# EAGLE library part CA3140AM (library Intersil_By_element14_Batch_1)
BiMOS Operational Amplifier with MOSFET Input/Bipolar Output
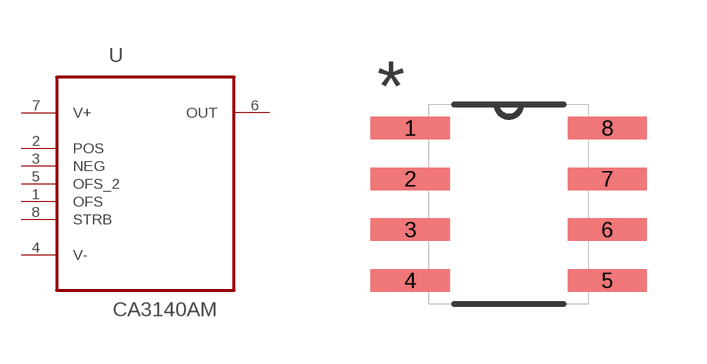
[diagram p7: symbol with the pads of SOIC127P600X175-8N; footprint SOIC127P600X175-8N]

Designator prefix U

## CA3140AM (MPN: CA3140AM; OC_FARNELL: -; OC_NEWARK: 05B5431; PACKAGE: SOIC-8; SUPPLIER: INTERSIL)  [SOIC127P600X175-8N]
1  OFS  pas
2  POS  in
3  NEG  in
4  V-  pwr
5  OFS_2  pas
6  OUT  out
7  V+  pwr
8  STRB  pas

## Footprint SOIC127P600X175-8N (pad centres in mm)
smd 1.981 x 0.559: 1 -2.464,1.905; 2 -2.464,0.635; 3 -2.464,-0.635; 4 -2.464,-1.905; 5 2.464,-1.905; 6 2.464,-0.635; 7 2.464,0.635; 8 2.464,1.905